# Altium schematic symbol library Schlib1.SchLib: 12 symbols
Pins are listed as number, name and electrical type; pins without a type are passive.

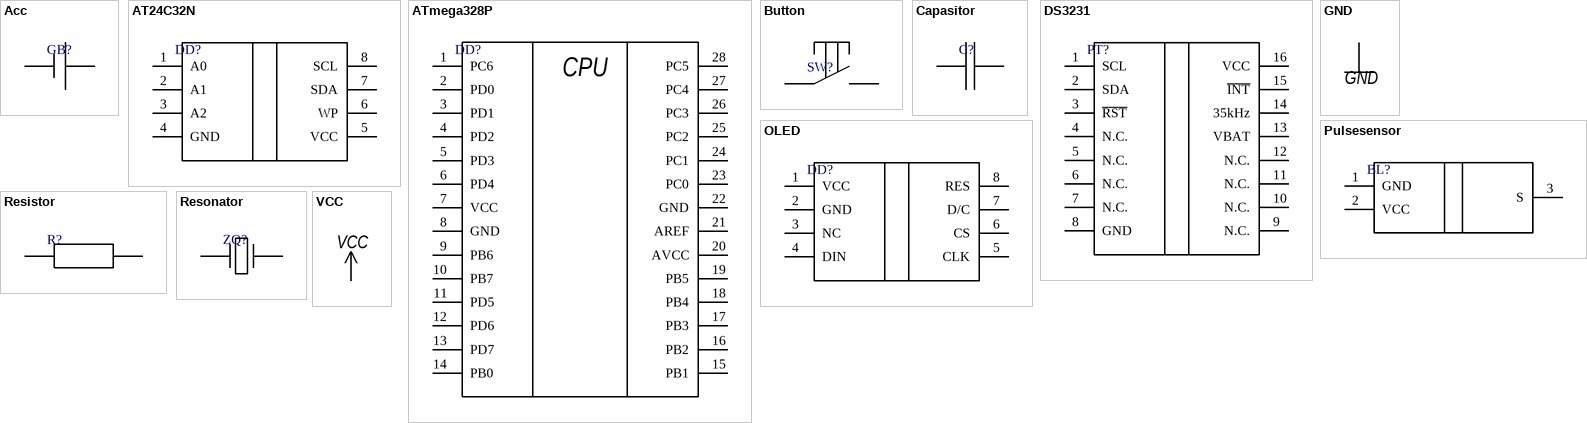
[diagram p0: symbols Acc to VCC]

## Acc
designator GB?  (value not drawn)
pins: 1, 2

## AT24C32N
designator DD?  (value not drawn)
pins: 1 A0, 2 A1, 3 A2, 4 GND, 5 VCC, 6 WP, 7 SDA, 8 SCL

## ATmega328P
designator DD?  (value not drawn)
pins: 1 PC6, 2 PD0, 3 PD1, 4 PD2, 5 PD3, 6 PD4, 7 VCC, 8 GND, 9 PB6, 10 PB7, 11 PD5, 12 PD6, 13 PD7, 14 PB0, 15 PB1, 16 PB2, 17 PB3, 18 PB4, 19 PB5, 20 AVCC, 21 AREF, 22 GND, 23 PC0, 24 PC1, 25 PC2, 26 PC3, 27 PC4, 28 PC5
text: CPU

## Button
designator SW?  (value not drawn)
pins: 1, 2

## Capasitor
designator C?  (value not drawn)
pins: 1, 2

## DS3231
designator PT?  (value not drawn)
pins: 1 SCL, 2 SDA, 3 ~{RST}, 4 N.C., 5 N.C., 6 N.C., 7 N.C., 8 GND, 9 N.C., 10 N.C., 11 N.C., 12 N.C., 13 VBAT, 14 35kHz, 15 ~{INT}, 16 VCC

## GND
designator *  (value not drawn)
pins: 1

## OLED
designator DD?  (value not drawn)
pins: 1 VCC, 2 GND, 3 NC, 4 DIN, 5 CLK, 6 CS, 7 D/C, 8 RES

## Pulsesensor
designator BL?  (value not drawn)
pins: 1 GND, 2 VCC, 3 S

## Resistor
designator R?  (value not drawn)
pins: 1, 2

## Resonator
designator ZQ?  (value not drawn)
pins: 1, 2

## VCC
designator *  (value not drawn)
pins: 1